# Altium footprint library PcbLib1.PcbLib: 1 footprints
Each footprint in its own frame and in the unit in brackets; x right, y up, seen from the top. Pads: shape width x height; smd on the part's side, far side on the other; paste and mask are expansions set on the pad; w line width, h text height; cw(c..) or ccw(c..) is an arc to the next point about the centre after c.
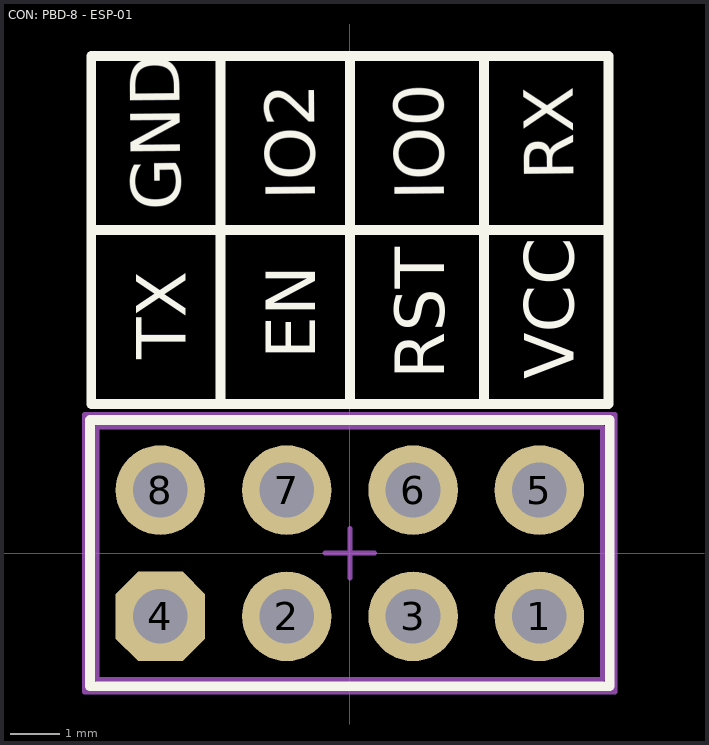
[diagram p0: the footprint, top view; thin cyan lines are the x and y axes]

## CON: PBD-8 - ESP-01 [mm] "PBD-8"
height 10
pads (8):
  round 1.8 hole 1.1: 1(3.81,-1.27) 2(-1.27,-1.27) 3(1.27,-1.27) 5(3.81,1.27) 6(1.27,1.27) 7(-1.27,1.27) 8(-3.81,1.27)
  oct 1.8x1.8 hole 1.1: 4(-3.81,-1.27)
Top Overlay:
  lines w0.2: -5.2,6.5 5.2,6.5 ; -2.6,3 -2.6,10 ; 0,3 0,10 ; 2.7,3 2.7,10 ; -5.225,-2.675 5.225,-2.675 5.225,2.675 -5.225,2.675 -5.225,-2.675 ; -5.2,3 5.2,3 5.2,10 -5.2,10 -5.2,3
  text "VCC" at 4.5,3.5 h1
  text "RX" at 4.5,7.5 h1
  text "RST" at 1.9,3.5 h1
  text "IO0" at 1.9,7.1 h1
  text "EN" at -0.7,3.9 h1
  text "IO2" at -0.7,7.1 h1
  text "GND" at -3.4,6.9 h1
  text "TX" at -3.3,3.9 h1
Mechanical 1:
  lines w0.1: -5.08,-2.54 5.08,-2.54 5.08,2.54 -5.08,2.54 -5.08,-2.54
Mechanical 15:
  lines w0.1: -0.5,0 0.5,0 ; 0,-0.5 0,0.5 ; -5.334,-2.794 -5.334,2.794 5.334,2.794 5.334,-2.794 -5.334,-2.794
3D body "PBD-8.STEP": height 8.5, standoff -3, extent -5.08,-2.54 5.08,2.54